# Altium schematic symbol library LM4889MA_NOPB.SchLib: 1 symbol
Pins are listed as number, name and electrical type; pins without a type are passive.

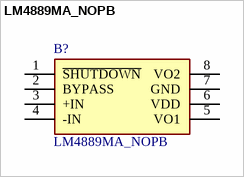
[diagram p0: symbol LM4889MA_NOPB]

## LM4889MA_NOPB
designator B?
1W AUDIO POWER AMP, LM4889MA; Manufacturer_Name: Texas Instruments; Manufacturer_Part_Number: LM4889MA/NOPB; Geometry.Height: 1.75mm; TME Electronic Components Part Number: *; TME Electronic Components Price/Stock: *; Datasheet Link: http://www.ti.com/lit/ds/symlink/lm4889.pdf
footprint SOIC127P600X175-8N
pins: 1 ~{SHUTDOWN}, 2 BYPASS, 3 +IN, 4 -IN, 5 VO1, 6 VDD, 7 GND, 8 VO2